# EAGLE library part DMG6601LVT (library diodes-custom)
COMPLEMENTARY PAIR ENHANCEMENT MODE MOSFET
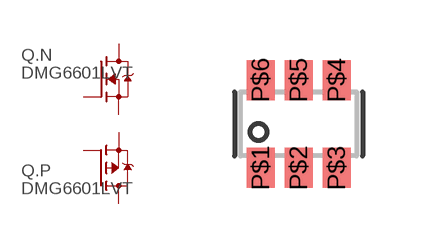
[diagram p0: symbol with the pads of TSOT26; footprint TSOT26]

Designator prefix Q; gates .N=N-MOSFET .P=P-MOSFET

## DMG6601LVT  [TSOT26]
P$1  .N:G  pas
P$2  .P:S  pas
P$3  .P:G  pas
P$4  .P:D  pas
P$5  .N:S  pas
P$6  .N:D  pas

## Footprint TSOT26 (pad centres in mm)
smd 0.7 x 1: P$1 -0.95,-1.099; P$2 0,-1.099; P$3 0.95,-1.099; P$4 0.95,1.099; P$5 0,1.099; P$6 -0.95,1.099